# Altium schematic symbol library OPA189IDBV.SchLib: 1 symbol
Pins are listed as number, name and electrical type; pins without a type are passive.

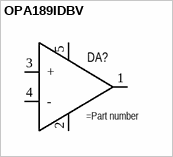
[diagram p0: symbol OPA189IDBV]

## OPA189IDBV
designator DA?
High-precision operational amplifier
pins: 1 Out, 2 GND, 3 +, 4 -, 5 Vdd